# Altium footprint library PKS019-4000-0.PcbLib: 1 footprints
Each footprint in its own frame and in the unit in brackets; x right, y up, seen from the top. Pads: shape width x height; smd on the part's side, far side on the other; paste and mask are expansions set on the pad; w line width, h text height; cw(c..) or ccw(c..) is an arc to the next point about the centre after c.
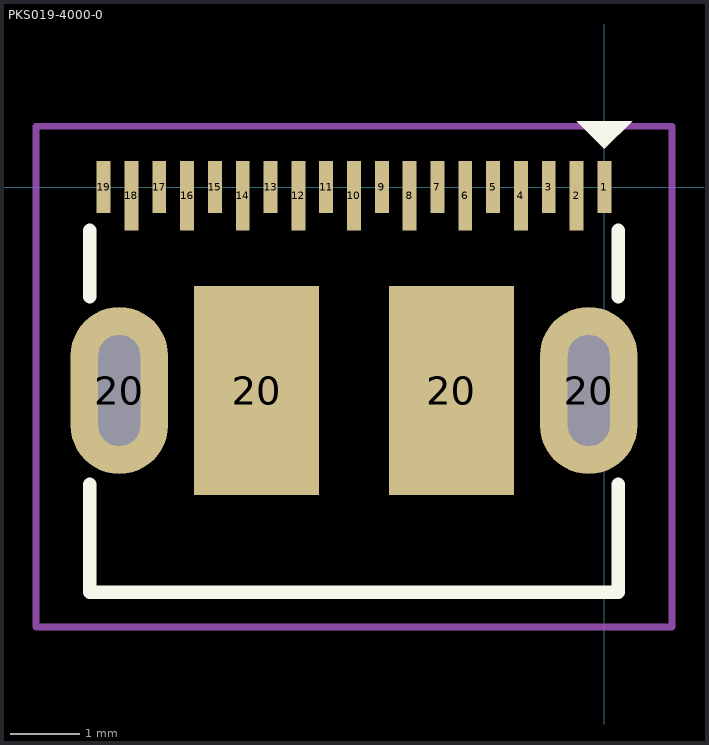
[diagram p0: the footprint, top view; thin cyan lines are the x and y axes]

## PKS019-4000-0 [mm]
pads (23):
  rect 0.2x0.75 smd: 1(0,0) 3(-0.8,0) 5(-1.6,0) 7(-2.4,0) 9(-3.2,0) 11(-4,0) 13(-4.8,0) 15(-5.6,0) 17(-6.4,0) 19(-7.2,0)
  rect 0.2x1 smd: 2(-0.4,-0.125) 4(-1.2,-0.125) 6(-2,-0.125) 8(-2.8,-0.125) 10(-3.6,-0.125) 12(-4.4,-0.125) 14(-5.2,-0.125) 16(-6,-0.125) 18(-6.8,-0.125)
  oval 1.4x2.4 hole 1.6 slot 0.6 at 0 deg: 20(-6.975,-2.925) 20(-0.225,-2.925)
  rect 1.8x3 smd: 20(-5,-2.925) 20(-2.2,-2.925)
Top Overlay:
  region: -0.4,0.95 0.4,0.95 0,0.55
  lines w0.2: -7.4,-4.275 -7.4,-5.825 0.2,-5.825 0.2,-4.275 ; -7.4,-1.575 -7.4,-0.625 ; 0.2,-1.575 0.2,-0.625
Top Courtyard:
  lines w0.1: -8.175,-6.325 -8.175,0.875 0.975,0.875 0.975,-6.325 -7.4,-6.325 -8.175,-6.325
3D body: height 3.4, standoff 0, extent -7.4,-5.825 0.2,0